# EAGLE library part 8PINSHEADER (library mpu6050pinheader)
8 pins header
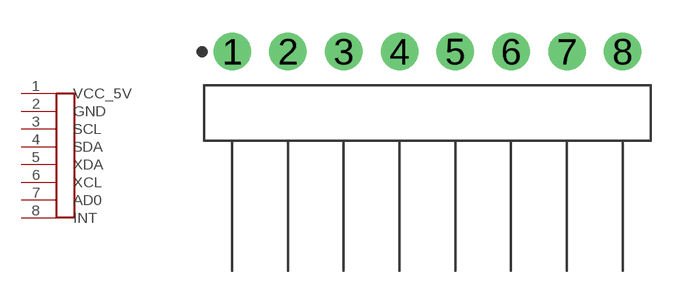
[diagram p0: symbol with the pads of HDRRA8W64P254_1X8_2032X254X556B; footprint HDRRA8W64P254_1X8_2032X254X556B]

Designator prefix -

## 8PINSHEADER  [HDRRA8W64P254_1X8_2032X254X556B]
1  VCC_5V
2  GND
3  SCL
4  SDA
5  XDA
6  XCL
7  AD0
8  INT

## Footprint HDRRA8W64P254_1X8_2032X254X556B (pad centres in mm)
Single-row, 8-pin Pin Header (Male) Right Angle, 2.54 mm (0.10 in) col pitch, 5.84 mm mating length, 20.32 X 2.54 X 5.56 mm body Single-row (1X8), 8-pin Pin Header (Male) Right Angle package with 2.54 mm (0.10 in) col pitch, 0.64 mm lead width, 3.00 mm tail length and 5.84 mm mating length with body size 20.32 X 2.54 X 5.56 mm, pin pattern - clockwise from top left
drill 1.105 pad 1.705: 1 -8.89,0; 2 -6.35,0; 3 -3.81,0; 4 -1.27,0; 5 1.27,0; 6 3.81,0; 7 6.35,0; 8 8.89,0